# Altium footprint library SOP65P640-16.PcbLib: 1 footprints
Each footprint in its own frame and in the unit in brackets; x right, y up, seen from the top. Pads: shape width x height; smd on the part's side, far side on the other; paste and mask are expansions set on the pad; w line width, h text height; cw(c..) or ccw(c..) is an arc to the next point about the centre after c.
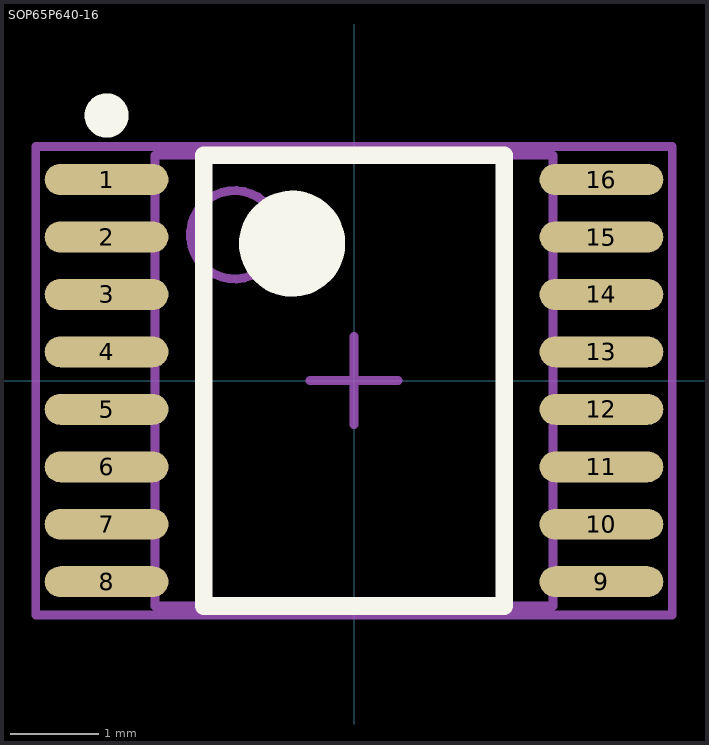
[diagram p0: the footprint, top view; thin cyan lines are the x and y axes]

## SOP65P640-16 [mm] "SOP, 16-Leads, Body 5x4.4mm, Pitch 0.65mm, IPC High Density"
height 2
pads (16):
  oval 1.4x0.35 smd: 1(-2.8,2.275) 2(-2.8,1.625) 3(-2.8,0.975) 4(-2.8,0.325) 5(-2.8,-0.325) 6(-2.8,-0.975) 7(-2.8,-1.625) 8(-2.8,-2.275) 9(2.8,-2.275) 10(2.8,-1.625) 11(2.8,-0.975) 12(2.8,-0.325) 13(2.8,0.325) 14(2.8,0.975) 15(2.8,1.625) 16(2.8,2.275)
Top Overlay:
  circle w0.6: c-0.7,1.55 r0.3
  circle w0.25: c-2.8,3 r0.125
  lines w0.2: -1.7,-2.55 1.7,-2.55 1.7,2.55 -1.7,2.55 -1.7,-2.55
Mechanical 13:
  circle w0.1: c-1.35,1.65 r0.5
  lines w0.1: -2.25,-2.55 2.25,-2.55 2.25,2.55 -2.25,2.55 -2.25,-2.55
Mechanical 15:
  lines w0.1: -0.5,0 0.5,0 ; 0,-0.5 0,0.5 ; -3.6,-2.65 3.6,-2.65 3.6,2.65 -3.6,2.65 -3.6,-2.65
3D body: height 2, standoff 0, extent -2.25,-2.55 2.25,2.55